# Altium integrated library ON Semi Digital Transistors (BRTs).IntLib: 470 symbols (part 7 of 11)
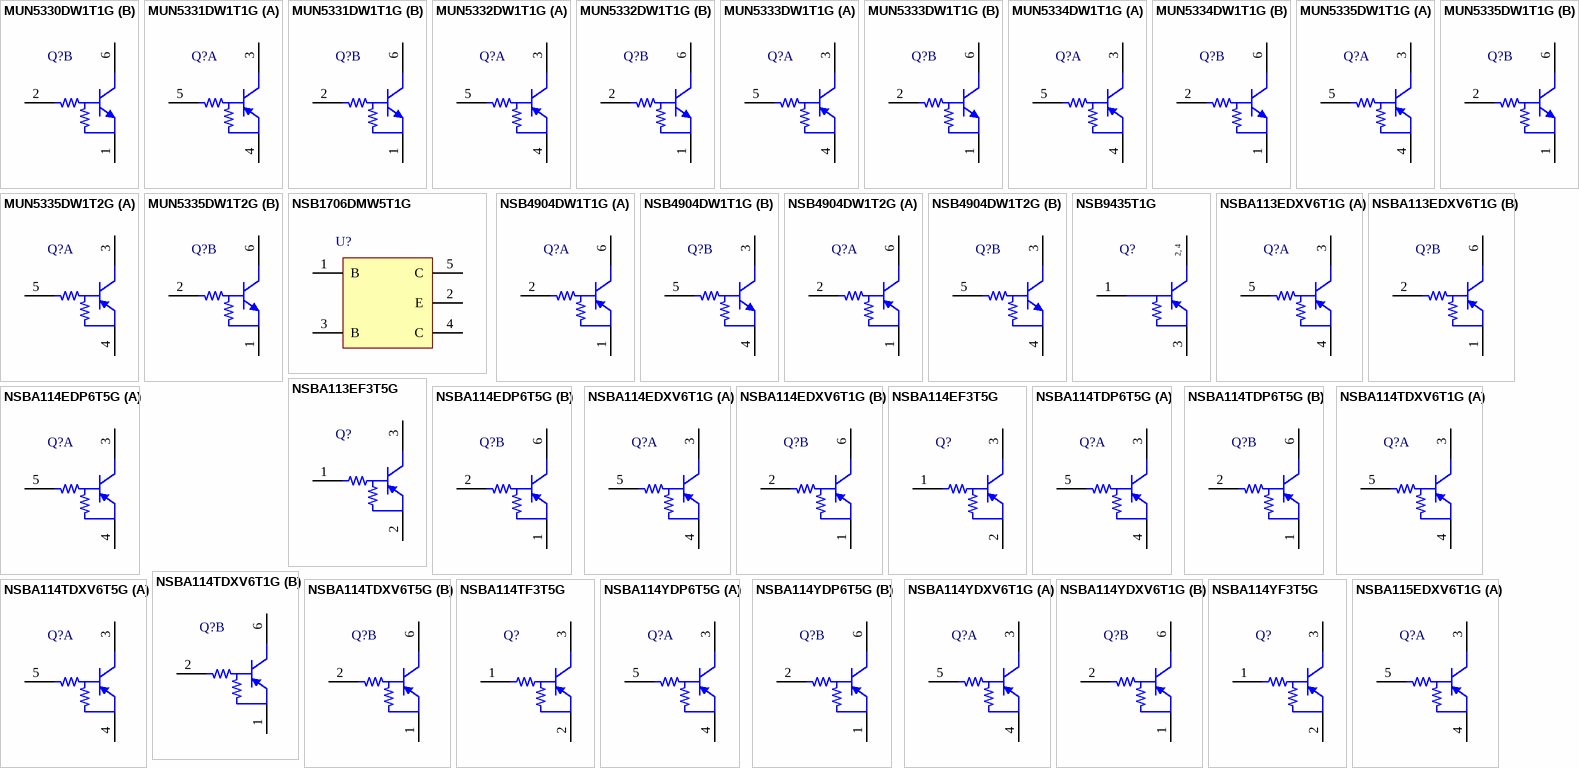
[diagram p22: symbols MUN5330DW1T1G to NSBA115EDXV6T1G]

## NSBA114YDXV6T1G
designator Q?
Dual PNP Bias Resistor Transistors, R1=10 kOhm, R2=47 kOhm, PNP Transistor, 6-Pin SOT-563, Pb-Free, Tape and Reel; Manufacturer: On Semiconductor; PartNumber: NSBA114YDXV6T1G; hFE Min: 80; IC Continuous (A): 0.1; R1/R2 Typ: 0.21; V(BR)CEO Min (V): 50; DatasheetVersion: Rev. 0; PackageVersion: Rev. F, 04/2005; PackageReference: SOT-563-6-463A-01; PackageDescription: 6-Pin Small Outline Transistor, Body 1.6 x 1.2 mm, Pitch 0.5 mm; Supplier 1: Digi-Key; Supplier Part Number 1: NSBA114YDXV6T1GOSTR-ND; Supplier 2: Digi-Key; Supplier Part Number 2: NSBA114YDXV6T1GOSCT-ND; Supplier 3: Newark; Supplier Part Number 3: 42K2299; Supplier 4: Mouser; Supplier Part Number 4: 863-NSBA114YDXV6T1G; Packing: Tape and Reel; Polarity: Dual PNP; RoHS: TRUE; Mounting Technology: Surface Mount; ComponentLink1Description: Manufacturer URL; ComponentLink1URL: http://www.onsemi.com/; ComponentLink2Description: Datasheet; ComponentLink2URL: http://www.onsemi.cn/pub_link/Collateral/DTA114YD-D.PDF; ComponentLink3Description: Package Specification; ComponentLink3URL: http://www.onsemi.cn/pub_link/Collateral/463A-01.PDF
footprint ONSC-SOT-563-6-463A-01_V (SOT23, 6-Leads, Body 1.6x1.2mm, Pitch 0.5mm)
part A pins: 3 C, 4 E, 5 B
part B pins: 1 E, 2 B, 6 C

## NSBA114YF3T5G
designator Q?
Digital Transistor (BRT), R1=10 kOhm, R2=47 kOhm, PNP Transistor, 3-Pin SOT-1123, Pb-Free, Tape and Reel; Manufacturer: On Semiconductor; PartNumber: NSBA114YF3T5G; hFE Min: 80; IC Continuous (A): 0.1; R1/R2 Typ: 0.21; V(BR)CEO Min (V): 50; DatasheetVersion: Rev. 2; PackageVersion: Rev. C, 11/2011; PackageReference: SOT-1123-3-524AA; PackageDescription: 3-Pin Small Outline Transistor, Body 0.8 x 0.6 mm, Pitch 0.375 mm; Supplier 1: Digi-Key; Supplier Part Number 1: NSBA114YF3T5G-ND; Supplier 2: Mouser; Supplier Part Number 2: 863-NSBA114YF3T5G; Packing: Tape and Reel; Polarity: PNP; RoHS: TRUE; Mounting Technology: Surface Mount; ComponentLink1Description: Manufacturer URL; ComponentLink1URL: http://www.onsemi.com/; ComponentLink2Description: Datasheet; ComponentLink2URL: http://www.onsemi.cn/pub_link/Collateral/DTA114Y-D.PDF; ComponentLink3Description: Package Specification; ComponentLink3URL: http://www.onsemi.cn/pub_link/Collateral/524AA.PDF
footprint ONSC-SOT-1123-3-524AA_V (SOT223, 3-Leads, Body 0.8x0.6mm, Pitch 0.38mm)
pins: 1 B, 2 E, 3 C

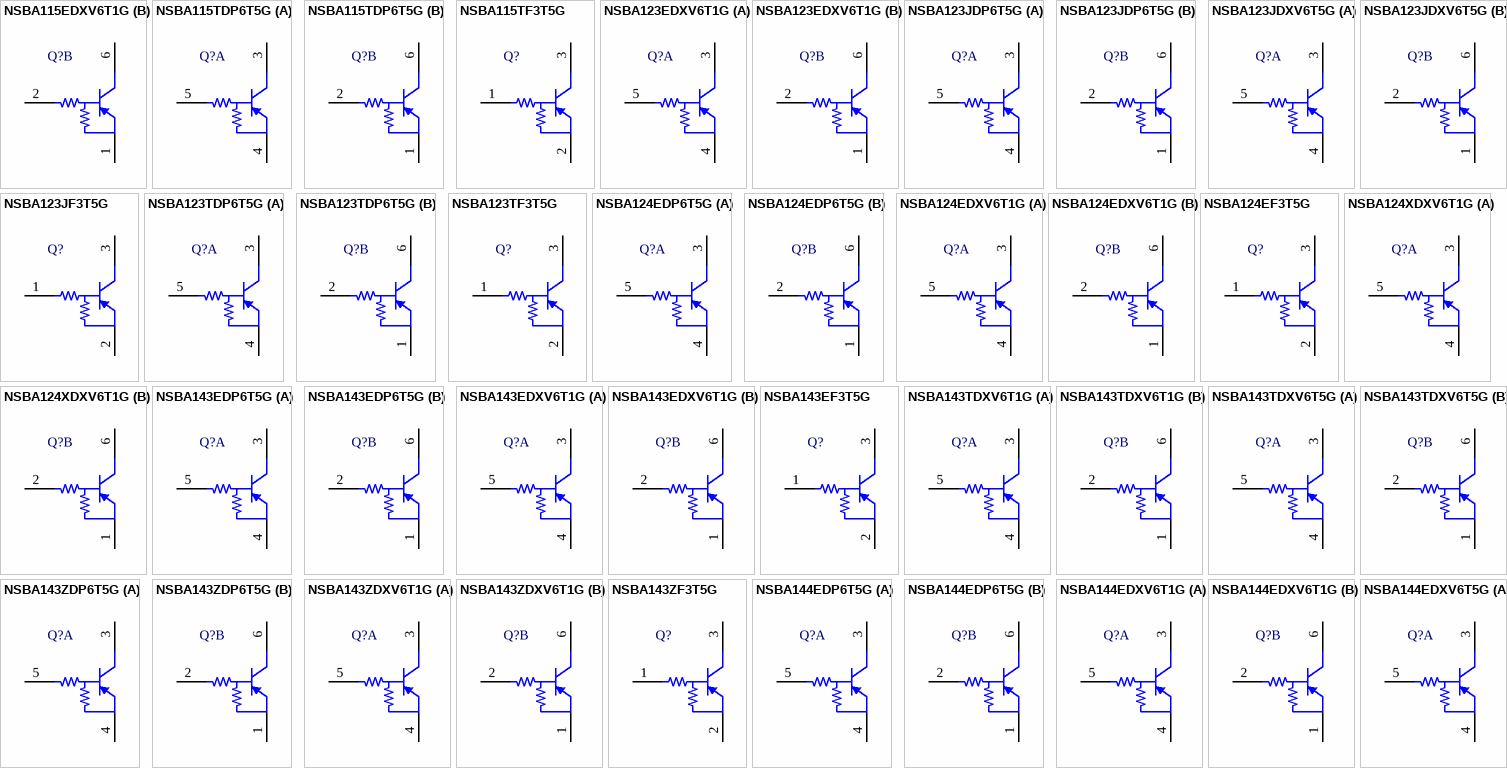
[diagram p8: symbols NSBA115EDXV6T1G to NSBA144EDXV6T5G]

## NSBA115EDXV6T1G
designator Q?
Dual PNP Bias Resistor Transistors, R1=100 kOhm, R2=100 kOhm, PNP Transistor, 6-Pin SOT-563, Pb-Free, Tape and Reel; Manufacturer: On Semiconductor; PartNumber: NSBA115EDXV6T1G; hFE Min: 80; IC Continuous (A): 0.1; R1/R2 Typ: 1; V(BR)CEO Min (V): 50; DatasheetVersion: Rev. 0; PackageVersion: Rev. F, 04/2005; PackageReference: SOT-563-6-463A-01; PackageDescription: 6-Pin Small Outline Transistor, Body 1.6 x 1.2 mm, Pitch 0.5 mm; Supplier 1: Digi-Key; Supplier Part Number 1: NSBA115EDXV6T1GOSTR-ND; Supplier 2: Digi-Key; Supplier Part Number 2: NSBA115EDXV6T1GOSCT-ND; Supplier 3: Mouser; Supplier Part Number 3: 863-NSBA115EDXV6T1G; Packing: Tape and Reel; Polarity: Dual PNP; RoHS: TRUE; Mounting Technology: Surface Mount; ComponentLink1Description: Manufacturer URL; ComponentLink1URL: http://www.onsemi.com/; ComponentLink2Description: Datasheet; ComponentLink2URL: http://www.onsemi.cn/pub_link/Collateral/DTA115ED-D.PDF; ComponentLink3Description: Package Specification; ComponentLink3URL: http://www.onsemi.cn/pub_link/Collateral/463A-01.PDF
footprint ONSC-SOT-563-6-463A-01_V (SOT23, 6-Leads, Body 1.6x1.2mm, Pitch 0.5mm)
part A pins: 3 C, 4 E, 5 B
part B pins: 1 E, 2 B, 6 C

## NSBA115TDP6T5G
designator Q?
Dual PNP Bias Resistor Transistors, R1=100 kOhm, R2=infinity kOhm, PNP Transistor, 6-Pin SOT-963, Pb-Free, Tape and Reel; Manufacturer: On Semiconductor; PartNumber: NSBA115TDP6T5G; hFE Min: 160; IC Continuous (A): 0.1; V(BR)CEO Min (V): 50; DatasheetVersion: Rev. 0; PackageVersion: Rev. E, 02/2010; PackageReference: SOT-963-6-527AD-01; PackageDescription: 6-Pin Small Outline Transistor, Body 1 x 0.8 mm, Pitch 0.35 mm; Supplier 1: Digi-Key; Supplier Part Number 1: NSBA115TDP6T5G-ND; Supplier 2: Mouser; Supplier Part Number 2: 863-NSBA115TDP6T5G; Packing: Tape and Reel; Polarity: Dual PNP; RoHS: TRUE; Mounting Technology: Surface Mount; ComponentLink1Description: Manufacturer URL; ComponentLink1URL: http://www.onsemi.com/; ComponentLink2Description: Datasheet; ComponentLink2URL: http://www.onsemi.cn/pub_link/Collateral/DTA115TD-D.PDF; ComponentLink3Description: Package Specification; ComponentLink3URL: http://www.onsemi.cn/pub_link/Collateral/527AD.PDF
footprint ONSC-SOT-963-6-527AD-01_V (SOT23, 6-Leads, Body 1x0.8mm, Pitch 0.35mm)
part A pins: 3 C, 4 E, 5 B
part B pins: 1 E, 2 B, 6 C

## NSBA115TF3T5G
designator Q?
Digital Transistor (BRT), R1=100 kOhm, R2=infinity kOhm, PNP Transistor, 3-Pin SOT-1123, Pb-Free, Tape and Reel; Manufacturer: On Semiconductor; PartNumber: NSBA115TF3T5G; hFE Min: 160; IC Continuous (A): 0.1; V(BR)CEO Min (V): 50; DatasheetVersion: Rev. 2; PackageVersion: Rev. C, 11/2011; PackageReference: SOT-1123-3-524AA; PackageDescription: 3-Pin Small Outline Transistor, Body 0.8 x 0.6 mm, Pitch 0.375 mm; Supplier 1: Digi-Key; Supplier Part Number 1: NSBA115TF3T5G-ND; Supplier 2: Mouser; Supplier Part Number 2: 863-NSBA115TF3T5G; Packing: Tape and Reel; Polarity: PNP; RoHS: TRUE; Mounting Technology: Surface Mount; ComponentLink1Description: Manufacturer URL; ComponentLink1URL: http://www.onsemi.com/; ComponentLink2Description: Datasheet; ComponentLink2URL: http://www.onsemi.cn/pub_link/Collateral/DTA115T-D.PDF; ComponentLink3Description: Package Specification; ComponentLink3URL: http://www.onsemi.cn/pub_link/Collateral/524AA.PDF
footprint ONSC-SOT-1123-3-524AA_V (SOT223, 3-Leads, Body 0.8x0.6mm, Pitch 0.38mm)
pins: 1 B, 2 E, 3 C

## NSBA123EDXV6T1G
designator Q?
Dual PNP Bias Resistor Transistors, R1=2.2 kOhm, R2=2.2 kOhm, PNP Transistor, 6-Pin SOT-563, Pb-Free, Tape and Reel; Manufacturer: On Semiconductor; PartNumber: NSBA123EDXV6T1G; hFE Min: 8; IC Continuous (A): 0.1; R1/R2 Typ: 1; V(BR)CEO Min (V): 50; DatasheetVersion: Rev. 0; PackageVersion: Rev. F, 04/2005; PackageReference: SOT-563-6-463A-01; PackageDescription: 6-Pin Small Outline Transistor, Body 1.6 x 1.2 mm, Pitch 0.5 mm; Supplier 1: Digi-Key; Supplier Part Number 1: NSBA123EDXV6T1GOS-ND; Supplier 2: Mouser; Supplier Part Number 2: 863-NSBA123EDXV6T1G; Packing: Tape and Reel; Polarity: Dual PNP; RoHS: TRUE; Mounting Technology: Surface Mount; ComponentLink1Description: Manufacturer URL; ComponentLink1URL: http://www.onsemi.com/; ComponentLink2Description: Datasheet; ComponentLink2URL: http://www.onsemi.cn/pub_link/Collateral/DTA123ED-D.PDF; ComponentLink3Description: Package Specification; ComponentLink3URL: http://www.onsemi.cn/pub_link/Collateral/463A-01.PDF
footprint ONSC-SOT-563-6-463A-01_V (SOT23, 6-Leads, Body 1.6x1.2mm, Pitch 0.5mm)
part A pins: 3 C, 4 E, 5 B
part B pins: 1 E, 2 B, 6 C

## NSBA123JDP6T5G
designator Q?
Dual PNP Bias Resistor Transistors, R1=2.2 kOhm, R2=47 kOhm, PNP Transistor, 6-Pin SOT-963, Pb-Free, Tape and Reel; Manufacturer: On Semiconductor; PartNumber: NSBA123JDP6T5G; hFE Min: 80; IC Continuous (A): 0.1; R1/R2 Typ: 0.047; V(BR)CEO Min (V): 50; DatasheetVersion: Rev. 0; PackageVersion: Rev. E, 02/2010; PackageReference: SOT-963-6-527AD-01; PackageDescription: 6-Pin Small Outline Transistor, Body 1 x 0.8 mm, Pitch 0.35 mm; Supplier 1: Digi-Key; Supplier Part Number 1: NSBA123JDP6T5G-ND; Supplier 2: Mouser; Supplier Part Number 2: 863-NSBA123JDP6T5G; Packing: Tape and Reel; Polarity: Dual PNP; RoHS: TRUE; Mounting Technology: Surface Mount; ComponentLink1Description: Manufacturer URL; ComponentLink1URL: http://www.onsemi.com/; ComponentLink2Description: Datasheet; ComponentLink2URL: http://www.onsemi.cn/pub_link/Collateral/DTA123JD-D.PDF; ComponentLink3Description: Package Specification; ComponentLink3URL: http://www.onsemi.cn/pub_link/Collateral/527AD.PDF
footprint ONSC-SOT-963-6-527AD-01_V (SOT23, 6-Leads, Body 1x0.8mm, Pitch 0.35mm)
part A pins: 3 C, 4 E, 5 B
part B pins: 1 E, 2 B, 6 C

## NSBA123JDXV6T5G
designator Q?
Dual PNP Bias Resistor Transistors, R1=2.2 kOhm, R2=47 kOhm, PNP Transistor, 6-Pin SOT-563, Pb-Free, Tape and Reel; Manufacturer: On Semiconductor; PartNumber: NSBA123JDXV6T5G; hFE Min: 80; IC Continuous (A): 0.1; R1/R2 Typ: 0.047; V(BR)CEO Min (V): 50; DatasheetVersion: Rev. 0; PackageVersion: Rev. F, 04/2005; PackageReference: SOT-563-6-463A-01; PackageDescription: 6-Pin Small Outline Transistor, Body 1.6 x 1.2 mm, Pitch 0.5 mm; Supplier 1: Digi-Key; Supplier Part Number 1: NSBA123JDXV6T5GOS-ND; Supplier 2: Newark; Supplier Part Number 2: 42K2306; Supplier 3: Mouser; Supplier Part Number 3: 863-NSBA123JDXV6T5G; Packing: Tape and Reel; Polarity: Dual PNP; RoHS: TRUE; Mounting Technology: Surface Mount; ComponentLink1Description: Manufacturer URL; ComponentLink1URL: http://www.onsemi.com/; ComponentLink2Description: Datasheet; ComponentLink2URL: http://www.onsemi.cn/pub_link/Collateral/DTA123JD-D.PDF; ComponentLink3Description: Package Specification; ComponentLink3URL: http://www.onsemi.cn/pub_link/Collateral/463A-01.PDF
footprint ONSC-SOT-563-6-463A-01_V (SOT23, 6-Leads, Body 1.6x1.2mm, Pitch 0.5mm)
part A pins: 3 C, 4 E, 5 B
part B pins: 1 E, 2 B, 6 C

## NSBA123JF3T5G
designator Q?
Digital Transistor (BRT), R1=2.2 kOhm, R2=47 kOhm, PNP Transistor, 3-Pin SOT-1123, Pb-Free, Tape and Reel; Manufacturer: On Semiconductor; PartNumber: NSBA123JF3T5G; hFE Min: 80; IC Continuous (A): 0.1; R1/R2 Typ: 0.047; V(BR)CEO Min (V): 50; DatasheetVersion: Rev. 2; PackageVersion: Rev. C, 11/2011; PackageReference: SOT-1123-3-524AA; PackageDescription: 3-Pin Small Outline Transistor, Body 0.8 x 0.6 mm, Pitch 0.375 mm; Supplier 1: Digi-Key; Supplier Part Number 1: NSBA123JF3T5G-ND; Supplier 2: Mouser; Supplier Part Number 2: 863-NSBA123JF3T5G; Packing: Tape and Reel; Polarity: PNP; RoHS: TRUE; Mounting Technology: Surface Mount; ComponentLink1Description: Manufacturer URL; ComponentLink1URL: http://www.onsemi.com/; ComponentLink2Description: Datasheet; ComponentLink2URL: http://www.onsemi.cn/pub_link/Collateral/DTA123J-D.PDF; ComponentLink3Description: Package Specification; ComponentLink3URL: http://www.onsemi.cn/pub_link/Collateral/524AA.PDF
footprint ONSC-SOT-1123-3-524AA_V (SOT223, 3-Leads, Body 0.8x0.6mm, Pitch 0.38mm)
pins: 1 B, 2 E, 3 C

## NSBA123TDP6T5G
designator Q?
Dual PNP Bias Resistor Transistors, R1=2.2 kOhm, R2=infinity kOhm, PNP Transistor, 6-Pin SOT-963, Pb-Free, Tape and Reel; Manufacturer: On Semiconductor; PartNumber: NSBA123TDP6T5G; hFE Min: 160; IC Continuous (A): 0.1; V(BR)CEO Min (V): 50; DatasheetVersion: Rev. 0; PackageVersion: Rev. E, 02/2010; PackageReference: SOT-963-6-527AD-01; PackageDescription: 6-Pin Small Outline Transistor, Body 1 x 0.8 mm, Pitch 0.35 mm; Supplier 1: Digi-Key; Supplier Part Number 1: NSBA123TDP6T5G-ND; Supplier 2: Mouser; Supplier Part Number 2: 863-NSBA123TDP6T5G; Packing: Tape and Reel; Polarity: Dual PNP; RoHS: TRUE; Mounting Technology: Surface Mount; ComponentLink1Description: Manufacturer URL; ComponentLink1URL: http://www.onsemi.com/; ComponentLink2Description: Datasheet; ComponentLink2URL: http://www.onsemi.cn/pub_link/Collateral/DTA123TD-D.PDF; ComponentLink3Description: Package Specification; ComponentLink3URL: http://www.onsemi.cn/pub_link/Collateral/527AD.PDF
footprint ONSC-SOT-963-6-527AD-01_V (SOT23, 6-Leads, Body 1x0.8mm, Pitch 0.35mm)
part A pins: 3 C, 4 E, 5 B
part B pins: 1 E, 2 B, 6 C

## NSBA123TF3T5G
designator Q?
Digital Transistor (BRT), R1=2.2 kOhm, R2=infinity kOhm, PNP Transistor, 3-Pin SOT-1123, Pb-Free, Tape and Reel; Manufacturer: On Semiconductor; PartNumber: NSBA123TF3T5G; hFE Min: 160; IC Continuous (A): 0.1; V(BR)CEO Min (V): 50; DatasheetVersion: Rev. 2; PackageVersion: Rev. C, 11/2011; PackageReference: SOT-1123-3-524AA; PackageDescription: 3-Pin Small Outline Transistor, Body 0.8 x 0.6 mm, Pitch 0.375 mm; Supplier 1: Digi-Key; Supplier Part Number 1: NSBA123TF3T5G-ND; Supplier 2: Mouser; Supplier Part Number 2: 863-NSBA123TF3T5G; Packing: Tape and Reel; Polarity: PNP; RoHS: TRUE; Mounting Technology: Surface Mount; ComponentLink1Description: Manufacturer URL; ComponentLink1URL: http://www.onsemi.com/; ComponentLink2Description: Datasheet; ComponentLink2URL: http://www.onsemi.cn/pub_link/Collateral/DTA123T-D.PDF; ComponentLink3Description: Package Specification; ComponentLink3URL: http://www.onsemi.cn/pub_link/Collateral/524AA.PDF
footprint ONSC-SOT-1123-3-524AA_V (SOT223, 3-Leads, Body 0.8x0.6mm, Pitch 0.38mm)
pins: 1 B, 2 E, 3 C

## NSBA124EDP6T5G
designator Q?
Dual PNP Bias Resistor Transistors, R1=22 kOhm, R2=22 kOhm, PNP Transistor, 6-Pin SOT-963, Pb-Free, Tape and Reel; Manufacturer: On Semiconductor; PartNumber: NSBA124EDP6T5G; hFE Min: 60; IC Continuous (A): 0.1; R1/R2 Typ: 1; V(BR)CEO Min (V): 50; DatasheetVersion: Rev. 0; PackageVersion: Rev. E, 02/2010; PackageReference: SOT-963-6-527AD-01; PackageDescription: 6-Pin Small Outline Transistor, Body 1 x 0.8 mm, Pitch 0.35 mm; Supplier 1: Digi-Key; Supplier Part Number 1: NSBA124EDP6T5G-ND; Supplier 2: Mouser; Supplier Part Number 2: 863-NSBA124EDP6T5G; Packing: Tape and Reel; Polarity: Dual PNP; RoHS: TRUE; Mounting Technology: Surface Mount; ComponentLink1Description: Manufacturer URL; ComponentLink1URL: http://www.onsemi.com/; ComponentLink2Description: Datasheet; ComponentLink2URL: http://www.onsemi.cn/pub_link/Collateral/DTA124ED-D.PDF; ComponentLink3Description: Package Specification; ComponentLink3URL: http://www.onsemi.cn/pub_link/Collateral/527AD.PDF
footprint ONSC-SOT-963-6-527AD-01_V (SOT23, 6-Leads, Body 1x0.8mm, Pitch 0.35mm)
part A pins: 3 C, 4 E, 5 B
part B pins: 1 E, 2 B, 6 C

## NSBA124EDXV6T1G
designator Q?
Dual PNP Bias Resistor Transistors, R1=22 kOhm, R2=22 kOhm, PNP Transistor, 6-Pin SOT-563, Pb-Free, Tape and Reel; Manufacturer: On Semiconductor; PartNumber: NSBA124EDXV6T1G; hFE Min: 60; IC Continuous (A): 0.1; R1/R2 Typ: 1; V(BR)CEO Min (V): 50; DatasheetVersion: Rev. 0; PackageVersion: Rev. F, 04/2005; PackageReference: SOT-563-6-463A-01; PackageDescription: 6-Pin Small Outline Transistor, Body 1.6 x 1.2 mm, Pitch 0.5 mm; Supplier 1: Digi-Key; Supplier Part Number 1: NSBA124EDXV6T1GOS-ND; Supplier 2: Mouser; Supplier Part Number 2: 863-NSBA124EDXV6T1G; Packing: Tape and Reel; Polarity: Dual PNP; RoHS: TRUE; Mounting Technology: Surface Mount; ComponentLink1Description: Manufacturer URL; ComponentLink1URL: http://www.onsemi.com/; ComponentLink2Description: Datasheet; ComponentLink2URL: http://www.onsemi.cn/pub_link/Collateral/DTA124ED-D.PDF; ComponentLink3Description: Package Specification; ComponentLink3URL: http://www.onsemi.cn/pub_link/Collateral/463A-01.PDF
footprint ONSC-SOT-563-6-463A-01_V (SOT23, 6-Leads, Body 1.6x1.2mm, Pitch 0.5mm)
part A pins: 3 C, 4 E, 5 B
part B pins: 1 E, 2 B, 6 C

## NSBA124EF3T5G
designator Q?
Digital Transistor (BRT), R1=22 kOhm, R2=22 kOhm, PNP Transistor, 3-Pin SOT-1123, Pb-Free, Tape and Reel; Manufacturer: On Semiconductor; PartNumber: NSBA124EF3T5G; hFE Min: 60; IC Continuous (A): 0.1; R1/R2 Typ: 1; V(BR)CEO Min (V): 50; DatasheetVersion: Rev. 4; PackageVersion: Rev. C, 11/2011; PackageReference: SOT-1123-3-524AA; PackageDescription: 3-Pin Small Outline Transistor, Body 0.8 x 0.6 mm, Pitch 0.375 mm; Supplier 1: Digi-Key; Supplier Part Number 1: NSBA124EF3T5G-ND; Supplier 2: Mouser; Supplier Part Number 2: 863-NSBA124EF3T5G; Packing: Tape and Reel; Polarity: PNP; RoHS: TRUE; Mounting Technology: Surface Mount; ComponentLink1Description: Manufacturer URL; ComponentLink1URL: http://www.onsemi.com/; ComponentLink2Description: Datasheet; ComponentLink2URL: http://www.onsemi.cn/pub_link/Collateral/DTA124E-D.PDF; ComponentLink3Description: Package Specification; ComponentLink3URL: http://www.onsemi.cn/pub_link/Collateral/524AA.PDF
footprint ONSC-SOT-1123-3-524AA_V (SOT223, 3-Leads, Body 0.8x0.6mm, Pitch 0.38mm)
pins: 1 B, 2 E, 3 C

## NSBA124XDXV6T1G
designator Q?
Dual PNP Bias Resistor Transistors, R1=22 kOhm, R2=47 kOhm, PNP Transistor, 6-Pin SOT-563, Pb-Free, Tape and Reel; Manufacturer: On Semiconductor; PartNumber: NSBA124XDXV6T1G; hFE Min: 80; IC Continuous (A): 0.1; R1/R2 Typ: 0.47; V(BR)CEO Min (V): 50; DatasheetVersion: Rev. 0; PackageVersion: Rev. F, 04/2005; PackageReference: SOT-563-6-463A-01; PackageDescription: 6-Pin Small Outline Transistor, Body 1.6 x 1.2 mm, Pitch 0.5 mm; Supplier 1: Mouser; Supplier Part Number 1: N/A; Packing: Tape and Reel; Polarity: Dual PNP; RoHS: TRUE; Mounting Technology: Surface Mount; ComponentLink1Description: Manufacturer URL; ComponentLink1URL: http://www.onsemi.com/; ComponentLink2Description: Datasheet; ComponentLink2URL: http://www.onsemi.cn/pub_link/Collateral/DTA124XD-D.PDF; ComponentLink3Description: Package Specification; ComponentLink3URL: http://www.onsemi.cn/pub_link/Collateral/463A-01.PDF
footprint ONSC-SOT-563-6-463A-01_V (SOT23, 6-Leads, Body 1.6x1.2mm, Pitch 0.5mm)
part A pins: 3 C, 4 E, 5 B
part B pins: 1 E, 2 B, 6 C

## NSBA143EDP6T5G
designator Q?
Dual PNP Bias Resistor Transistors, R1=4.7 kOhm, R2=4.7 kOhm, PNP Transistor, 6-Pin SOT-963, Pb-Free, Tape and Reel; Manufacturer: On Semiconductor; PartNumber: NSBA143EDP6T5G; hFE Min: 15; IC Continuous (A): 0.1; R1/R2 Typ: 1; V(BR)CEO Min (V): 50; DatasheetVersion: Rev. 0; PackageVersion: Rev. E, 02/2010; PackageReference: SOT-963-6-527AD-01; PackageDescription: 6-Pin Small Outline Transistor, Body 1 x 0.8 mm, Pitch 0.35 mm; Supplier 1: Digi-Key; Supplier Part Number 1: NSBA143EDP6T5G-ND; Supplier 2: Mouser; Supplier Part Number 2: 863-NSBA143EDP6T5G; Packing: Tape and Reel; Polarity: Dual PNP; RoHS: TRUE; Mounting Technology: Surface Mount; ComponentLink1Description: Manufacturer URL; ComponentLink1URL: http://www.onsemi.com/; ComponentLink2Description: Datasheet; ComponentLink2URL: http://www.onsemi.cn/pub_link/Collateral/DTA143ED-D.PDF; ComponentLink3Description: Package Specification; ComponentLink3URL: http://www.onsemi.cn/pub_link/Collateral/527AD.PDF
footprint ONSC-SOT-963-6-527AD-01_V (SOT23, 6-Leads, Body 1x0.8mm, Pitch 0.35mm)
part A pins: 3 C, 4 E, 5 B
part B pins: 1 E, 2 B, 6 C

## NSBA143EDXV6T1G
designator Q?
Dual PNP Bias Resistor Transistors, R1=4.7 kOhm, R2=4.7 kOhm, PNP Transistor, 6-Pin SOT-563, Pb-Free, Tape and Reel; Manufacturer: On Semiconductor; PartNumber: NSBA143EDXV6T1G; hFE Min: 15; IC Continuous (A): 0.1; R1/R2 Typ: 1; V(BR)CEO Min (V): 50; DatasheetVersion: Rev. 0; PackageVersion: Rev. F, 04/2005; PackageReference: SOT-563-6-463A-01; PackageDescription: 6-Pin Small Outline Transistor, Body 1.6 x 1.2 mm, Pitch 0.5 mm; Supplier 1: Digi-Key; Supplier Part Number 1: NSBA143EDXV6T1GOS-ND; Supplier 2: Mouser; Supplier Part Number 2: 863-NSBA143EDXV6T1G; Packing: Tape and Reel; Polarity: Dual PNP; RoHS: TRUE; Mounting Technology: Surface Mount; ComponentLink1Description: Manufacturer URL; ComponentLink1URL: http://www.onsemi.com/; ComponentLink2Description: Datasheet; ComponentLink2URL: http://www.onsemi.cn/pub_link/Collateral/DTA143ED-D.PDF; ComponentLink3Description: Package Specification; ComponentLink3URL: http://www.onsemi.cn/pub_link/Collateral/463A-01.PDF
footprint ONSC-SOT-563-6-463A-01_V (SOT23, 6-Leads, Body 1.6x1.2mm, Pitch 0.5mm)
part A pins: 3 C, 4 E, 5 B
part B pins: 1 E, 2 B, 6 C

## NSBA143EF3T5G
designator Q?
Digital Transistor (BRT), R1=4.7 kOhm, R2=4.7 kOhm, PNP Transistor, 3-Pin SOT-1123, Pb-Free, Tape and Reel; Manufacturer: On Semiconductor; PartNumber: NSBA143EF3T5G; hFE Min: 15; IC Continuous (A): 0.1; R1/R2 Typ: 1; V(BR)CEO Min (V): 50; DatasheetVersion: Rev. 2; PackageVersion: Rev. C, 11/2011; PackageReference: SOT-1123-3-524AA; PackageDescription: 3-Pin Small Outline Transistor, Body 0.8 x 0.6 mm, Pitch 0.375 mm; Supplier 1: Digi-Key; Supplier Part Number 1: NSBA143EF3T5G-ND; Supplier 2: Mouser; Supplier Part Number 2: 863-NSBA143EF3T5G; Packing: Tape and Reel; Polarity: PNP; RoHS: TRUE; Mounting Technology: Surface Mount; ComponentLink1Description: Manufacturer URL; ComponentLink1URL: http://www.onsemi.com/; ComponentLink2Description: Datasheet; ComponentLink2URL: http://www.onsemi.cn/pub_link/Collateral/DTA143E-D.PDF; ComponentLink3Description: Package Specification; ComponentLink3URL: http://www.onsemi.cn/pub_link/Collateral/524AA.PDF
footprint ONSC-SOT-1123-3-524AA_V (SOT223, 3-Leads, Body 0.8x0.6mm, Pitch 0.38mm)
pins: 1 B, 2 E, 3 C

## NSBA143TDXV6T1G
designator Q?
Dual PNP Bias Resistor Transistors, R1=4.7 kOhm, R2=infinity kOhm, PNP Transistor, 6-Pin SOT-563, Pb-Free, Tape and Reel; Manufacturer: On Semiconductor; PartNumber: NSBA143TDXV6T1G; hFE Min: 160; IC Continuous (A): 0.1; V(BR)CEO Min (V): 50; DatasheetVersion: Rev. 0; PackageVersion: Rev. F, 04/2005; PackageReference: SOT-563-6-463A-01; PackageDescription: 6-Pin Small Outline Transistor, Body 1.6 x 1.2 mm, Pitch 0.5 mm; Supplier 1: Digi-Key; Supplier Part Number 1: NSBA143TDXV6T1GOSCT-ND; Supplier 2: Mouser; Supplier Part Number 2: 863-NSBA143TDXV6T1G; Packing: Tape and Reel; Polarity: Dual PNP; RoHS: TRUE; Mounting Technology: Surface Mount; ComponentLink1Description: Manufacturer URL; ComponentLink1URL: http://www.onsemi.com/; ComponentLink2Description: Datasheet; ComponentLink2URL: http://www.onsemi.cn/pub_link/Collateral/DTA143TD-D.PDF; ComponentLink3Description: Package Specification; ComponentLink3URL: http://www.onsemi.cn/pub_link/Collateral/463A-01.PDF
footprint ONSC-SOT-563-6-463A-01_V (SOT23, 6-Leads, Body 1.6x1.2mm, Pitch 0.5mm)
part A pins: 3 C, 4 E, 5 B
part B pins: 1 E, 2 B, 6 C

## NSBA143TDXV6T5G
designator Q?
Dual PNP Bias Resistor Transistors, R1=4.7 kOhm, R2=infinity kOhm, PNP Transistor, 6-Pin SOT-563, Pb-Free, Tape and Reel; Manufacturer: On Semiconductor; PartNumber: NSBA143TDXV6T5G; hFE Min: 160; IC Continuous (A): 0.1; V(BR)CEO Min (V): 50; DatasheetVersion: Rev. 0; PackageVersion: Rev. F, 04/2005; PackageReference: SOT-563-6-463A-01; PackageDescription: 6-Pin Small Outline Transistor, Body 1.6 x 1.2 mm, Pitch 0.5 mm; Supplier 1: Mouser; Supplier Part Number 1: 863-NSBA143TDXV6T5G; Packing: Tape and Reel; Polarity: Dual PNP; RoHS: TRUE; Mounting Technology: Surface Mount; ComponentLink1Description: Manufacturer URL; ComponentLink1URL: http://www.onsemi.com/; ComponentLink2Description: Datasheet; ComponentLink2URL: http://www.onsemi.cn/pub_link/Collateral/DTA143TD-D.PDF; ComponentLink3Description: Package Specification; ComponentLink3URL: http://www.onsemi.cn/pub_link/Collateral/463A-01.PDF
footprint ONSC-SOT-563-6-463A-01_V (SOT23, 6-Leads, Body 1.6x1.2mm, Pitch 0.5mm)
part A pins: 3 C, 4 E, 5 B
part B pins: 1 E, 2 B, 6 C

## NSBA143ZDP6T5G
designator Q?
Dual PNP Bias Resistor Transistors, R1=4.7 kOhm, R2=47 kOhm, PNP Transistor, 6-Pin SOT-963, Pb-Free, Tape and Reel; Manufacturer: On Semiconductor; PartNumber: NSBA143ZDP6T5G; hFE Min: 80; IC Continuous (A): 0.1; V(BR)CEO Min (V): 50; DatasheetVersion: Rev. 1; PackageVersion: Rev. E, 02/2010; PackageReference: SOT-963-6-527AD-01; PackageDescription: 6-Pin Small Outline Transistor, Body 1 x 0.8 mm, Pitch 0.35 mm; Supplier 1: Digi-Key; Supplier Part Number 1: NSBA143ZDP6T5G-ND; Supplier 2: Mouser; Supplier Part Number 2: 863-NSBA143ZDP6T5G; Packing: Tape and Reel; Polarity: Dual PNP; R1/R2 Typ: 0.1; RoHS: TRUE; Mounting Technology: Surface Mount; ComponentLink1Description: Manufacturer URL; ComponentLink1URL: http://www.onsemi.com/; ComponentLink2Description: Datasheet; ComponentLink2URL: http://www.onsemi.cn/pub_link/Collateral/DTA143ZD-D.PDF; ComponentLink3Description: Package Specification; ComponentLink3URL: http://www.onsemi.cn/pub_link/Collateral/527AD.PDF
footprint ONSC-SOT-963-6-527AD-01_V (SOT23, 6-Leads, Body 1x0.8mm, Pitch 0.35mm)
part A pins: 3 C, 4 E, 5 B
part B pins: 1 E, 2 B, 6 C

## NSBA143ZDXV6T1G
designator Q?
Dual PNP Bias Resistor Transistors, R1=4.7 kOhm, R2=47 kOhm, PNP Transistor, 6-Pin SOT-563, Pb-Free, Tape and Reel; Manufacturer: On Semiconductor; PartNumber: NSBA143ZDXV6T1G; hFE Min: 80; IC Continuous (A): 0.1; V(BR)CEO Min (V): 50; DatasheetVersion: Rev. 1; PackageVersion: Rev. F, 04/2005; PackageReference: SOT-563-6-463A-01; PackageDescription: 6-Pin Small Outline Transistor, Body 1.6 x 1.2 mm, Pitch 0.5 mm; Supplier 1: Mouser; Supplier Part Number 1: N/A; Packing: Tape and Reel; Polarity: Dual PNP; R1/R2 Typ: 0.1; RoHS: TRUE; Mounting Technology: Surface Mount; ComponentLink1Description: Manufacturer URL; ComponentLink1URL: http://www.onsemi.com/; ComponentLink2Description: Datasheet; ComponentLink2URL: http://www.onsemi.cn/pub_link/Collateral/DTA143ZD-D.PDF; ComponentLink3Description: Package Specification; ComponentLink3URL: http://www.onsemi.cn/pub_link/Collateral/463A-01.PDF
footprint ONSC-SOT-563-6-463A-01_V (SOT23, 6-Leads, Body 1.6x1.2mm, Pitch 0.5mm)
part A pins: 3 C, 4 E, 5 B
part B pins: 1 E, 2 B, 6 C

## NSBA143ZF3T5G
designator Q?
Digital Transistor (BRT), R1=4.7 kOhm, R2=47 kOhm, PNP Transistor, 3-Pin SOT-1123, Pb-Free, Tape and Reel; Manufacturer: On Semiconductor; PartNumber: NSBA143ZF3T5G; hFE Min: 80; IC Continuous (A): 0.1; V(BR)CEO Min (V): 50; DatasheetVersion: Rev. 6; PackageVersion: Rev. C, 11/2011; PackageReference: SOT-1123-3-524AA; PackageDescription: 3-Pin Small Outline Transistor, Body 0.8 x 0.6 mm, Pitch 0.375 mm; Supplier 1: Digi-Key; Supplier Part Number 1: NSBA143ZF3T5G-ND; Supplier 2: Mouser; Supplier Part Number 2: 863-NSBA143ZF3T5G; Packing: Tape and Reel; Polarity: PNP; R1/R2 Typ: 0.1; RoHS: TRUE; Mounting Technology: Surface Mount; ComponentLink1Description: Manufacturer URL; ComponentLink1URL: http://www.onsemi.com/; ComponentLink2Description: Datasheet; ComponentLink2URL: http://www.onsemi.cn/pub_link/Collateral/DTA143Z-D.PDF; ComponentLink3Description: Package Specification; ComponentLink3URL: http://www.onsemi.cn/pub_link/Collateral/524AA.PDF
footprint ONSC-SOT-1123-3-524AA_V (SOT223, 3-Leads, Body 0.8x0.6mm, Pitch 0.38mm)
pins: 1 B, 2 E, 3 C

## NSBA144EDP6T5G
designator Q?
Dual PNP Bias Resistor Transistors, R1=47 kOhm, R2=47 kOhm, PNP Transistors, 6-Pin SOT-963, Pb-Free, Tape and Reel; Manufacturer: On Semiconductor; PartNumber: NSBA144EDP6T5G; hFE Min: 80; IC Continuous (A): 0.1; R1/R2 Typ: 1; V(BR)CEO Min (V): 50; DatasheetVersion: Rev. 0; PackageVersion: Rev. E, 02/2010; PackageReference: SOT-963-6-527AD-01; PackageDescription: 6-Pin Small Outline Transistor, Body 1 x 0.8 mm, Pitch 0.35 mm; Supplier 1: Digi-Key; Supplier Part Number 1: NSBA144EDP6T5G-ND; Supplier 2: Mouser; Supplier Part Number 2: 863-NSBA144EDP6T5G; Packing: Tape and Reel; Polarity: Dual PNP; RoHS: TRUE; Mounting Technology: Surface Mount; ComponentLink1Description: Manufacturer URL; ComponentLink1URL: http://www.onsemi.com/; ComponentLink2Description: Datasheet; ComponentLink2URL: http://www.onsemi.cn/pub_link/Collateral/DTA144ED-D.PDF; ComponentLink3Description: Package Specification; ComponentLink3URL: http://www.onsemi.cn/pub_link/Collateral/527AD.PDF
footprint ONSC-SOT-963-6-527AD-01_V (SOT23, 6-Leads, Body 1x0.8mm, Pitch 0.35mm)
part A pins: 3 C, 4 E, 5 B
part B pins: 1 E, 2 B, 6 C

## NSBA144EDXV6T1G
designator Q?
Dual PNP Bias Resistor Transistors, R1=47 kOhm, R2=47 kOhm, PNP Transistors, 6-Pin SOT-563, Pb-Free, Tape and Reel; Manufacturer: On Semiconductor; PartNumber: NSBA144EDXV6T1G; hFE Min: 80; IC Continuous (A): 0.1; R1/R2 Typ: 1; V(BR)CEO Min (V): 50; DatasheetVersion: Rev. 0; PackageVersion: Rev. F, 04/2005; PackageReference: SOT-563-6-463A-01; PackageDescription: 6-Pin Small Outline Transistor, Body 1.6 x 1.2 mm, Pitch 0.5 mm; Supplier 1: Mouser; Supplier Part Number 1: 863-NSBA144EDXV6T1G; Packing: Tape and Reel; Polarity: Dual PNP; RoHS: TRUE; Mounting Technology: Surface Mount; ComponentLink1Description: Manufacturer URL; ComponentLink1URL: http://www.onsemi.com/; ComponentLink2Description: Datasheet; ComponentLink2URL: http://www.onsemi.cn/pub_link/Collateral/DTA144ED-D.PDF; ComponentLink3Description: Package Specification; ComponentLink3URL: http://www.onsemi.cn/pub_link/Collateral/463A-01.PDF
footprint ONSC-SOT-563-6-463A-01_V (SOT23, 6-Leads, Body 1.6x1.2mm, Pitch 0.5mm)
part A pins: 3 C, 4 E, 5 B
part B pins: 1 E, 2 B, 6 C

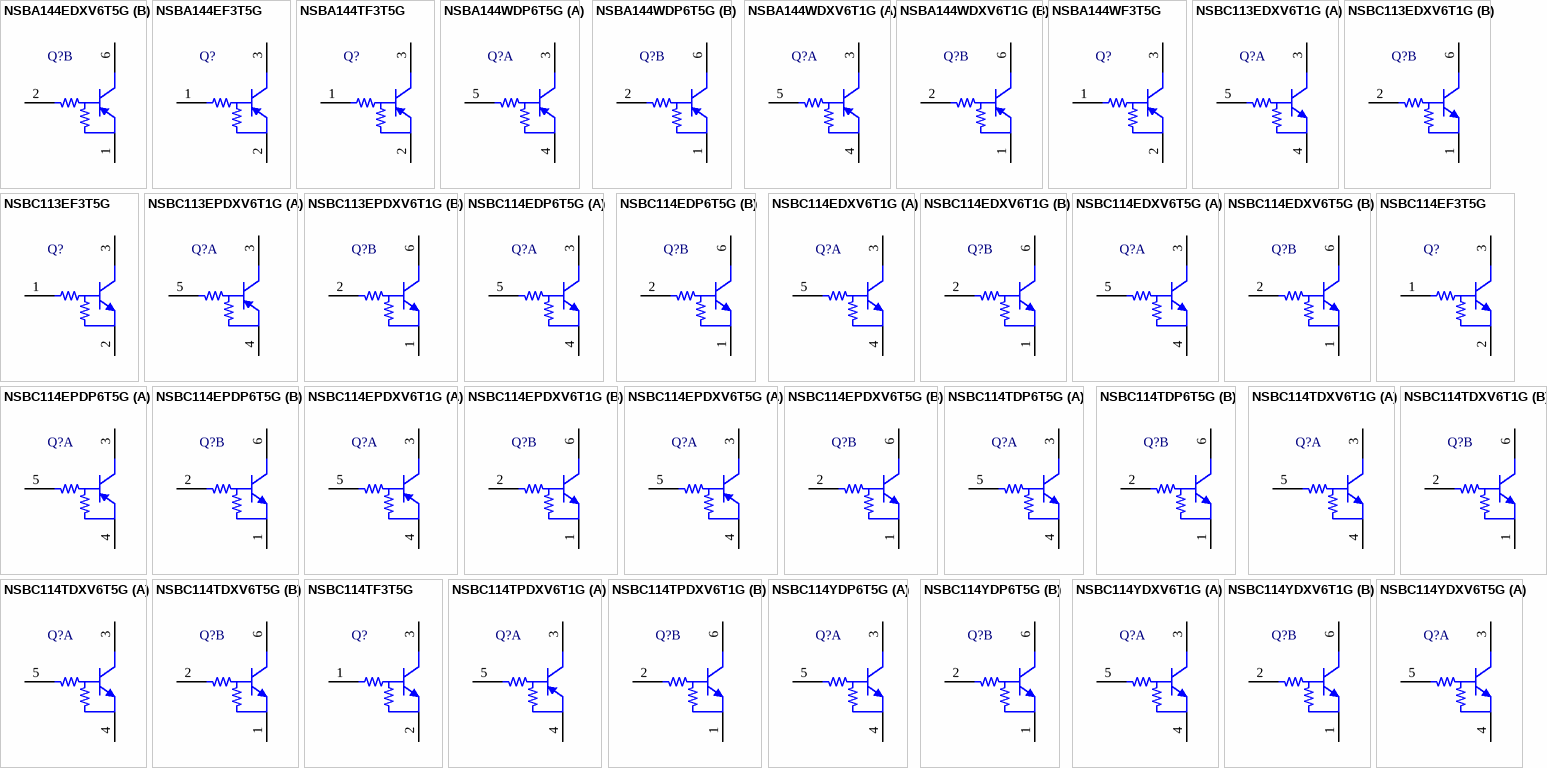
[diagram p9: symbols NSBA144EDXV6T5G to NSBC114YDXV6T5G]

## NSBA144EDXV6T5G
designator Q?
Dual PNP Bias Resistor Transistors, R1=47 kOhm, R2=47 kOhm, PNP Transistors, 6-Pin SOT-563, Pb-Free, Tape and Reel; Manufacturer: On Semiconductor; PartNumber: NSBA144EDXV6T5G; hFE Min: 80; IC Continuous (A): 0.1; R1/R2 Typ: 1; V(BR)CEO Min (V): 50; DatasheetVersion: Rev. 0; PackageVersion: Rev. F, 04/2005; PackageReference: SOT-563-6-463A-01; PackageDescription: 6-Pin Small Outline Transistor, Body 1.6 x 1.2 mm, Pitch 0.5 mm; Supplier 1: Mouser; Supplier Part Number 1: N/A; Packing: Tape and Reel; Polarity: Dual PNP; RoHS: TRUE; Mounting Technology: Surface Mount; ComponentLink1Description: Manufacturer URL; ComponentLink1URL: http://www.onsemi.com/; ComponentLink2Description: Datasheet; ComponentLink2URL: http://www.onsemi.cn/pub_link/Collateral/DTA144ED-D.PDF; ComponentLink3Description: Package Specification; ComponentLink3URL: http://www.onsemi.cn/pub_link/Collateral/463A-01.PDF
footprint ONSC-SOT-563-6-463A-01_V (SOT23, 6-Leads, Body 1.6x1.2mm, Pitch 0.5mm)
part A pins: 3 C, 4 E, 5 B
part B pins: 1 E, 2 B, 6 C

## NSBA144EF3T5G
designator Q?
Digital Transistor (BRT), R1=47 kOhm, R2=47 kOhm, PNP Transistor, 3-Pin SOT-1123, Pb-Free, Tape and Reel; Manufacturer: On Semiconductor; PartNumber: NSBA144EF3T5G; hFE Min: 80; IC Continuous (A): 0.1; R1/R2 Typ: 1; V(BR)CEO Min (V): 50; DatasheetVersion: Rev. 2; PackageVersion: Rev. C, 11/2011; PackageReference: SOT-1123-3-524AA; PackageDescription: 3-Pin Small Outline Transistor, Body 0.8 x 0.6 mm, Pitch 0.375 mm; Supplier 1: Digi-Key; Supplier Part Number 1: NSBA144EF3T5G-ND; Supplier 2: Mouser; Supplier Part Number 2: 863-NSBA144EF3T5G; Packing: Tape and Reel; Polarity: PNP; RoHS: TRUE; Mounting Technology: Surface Mount; ComponentLink1Description: Manufacturer URL; ComponentLink1URL: http://www.onsemi.com/; ComponentLink2Description: Datasheet; ComponentLink2URL: http://www.onsemi.cn/pub_link/Collateral/DTA144E-D.PDF; ComponentLink3Description: Package Specification; ComponentLink3URL: http://www.onsemi.cn/pub_link/Collateral/524AA.PDF
footprint ONSC-SOT-1123-3-524AA_V (SOT223, 3-Leads, Body 0.8x0.6mm, Pitch 0.38mm)
pins: 1 B, 2 E, 3 C

## NSBA144TF3T5G
designator Q?
Digital Transistor (BRT), R1=47 kOhm, R2=infinity kOhm, PNP Transistor, 3-Pin SOT-1123, Pb-Free, Tape and Reel; Manufacturer: On Semiconductor; PartNumber: NSBA144TF3T5G; hFE Min: 120; IC Continuous (A): 0.1; V(BR)CEO Min (V): 50; DatasheetVersion: Rev. 2; PackageVersion: Rev. C, 11/2011; PackageReference: SOT-1123-3-524AA; PackageDescription: 3-Pin Small Outline Transistor, Body 0.8 x 0.6 mm, Pitch 0.375 mm; Supplier 1: Newark; Supplier Part Number 1: 28X8044; Packing: Tape and Reel; Polarity: PNP; RoHS: TRUE; Mounting Technology: Surface Mount; ComponentLink1Description: Manufacturer URL; ComponentLink1URL: http://www.onsemi.com/; ComponentLink2Description: Datasheet; ComponentLink2URL: http://www.onsemi.com/pub_link/Collateral/DTA144T-D.PDF; ComponentLink3Description: Package Specification; ComponentLink3URL: http://www.onsemi.cn/pub_link/Collateral/524AA.PDF
footprint ONSC-SOT-1123-3-524AA_V (SOT223, 3-Leads, Body 0.8x0.6mm, Pitch 0.38mm)
pins: 1 B, 2 E, 3 C

## NSBA144WDP6T5G
designator Q?
Dual PNP Bias Resistor Transistors, R1=47 kOhm, R2=22 kOhm, PNP Transistor, 6-Pin SOT-963, Pb-Free, Tape and Reel; Manufacturer: On Semiconductor; PartNumber: NSBA144WDP6T5G; hFE Min: 80; IC Continuous (A): 0.1; R1/R2 Typ: 2.1; V(BR)CEO Min (V): 50; DatasheetVersion: Rev. 1; PackageVersion: Rev. E, 02/2010; PackageReference: SOT-963-6-527AD-01; PackageDescription: 6-Pin Small Outline Transistor, Body 1 x 0.8 mm, Pitch 0.35 mm; Supplier 1: Digi-Key; Supplier Part Number 1: NSBA144WDP6T5G-ND; Supplier 2: Mouser; Supplier Part Number 2: 863-NSBA144WDP6T5G; Packing: Tape and Reel; Polarity: Dual PNP; RoHS: TRUE; Mounting Technology: Surface Mount; ComponentLink1Description: Manufacturer URL; ComponentLink1URL: http://www.onsemi.com/; ComponentLink2Description: Datasheet; ComponentLink2URL: http://www.onsemi.cn/pub_link/Collateral/DTA144WD-D.PDF; ComponentLink3Description: Package Specification; ComponentLink3URL: http://www.onsemi.cn/pub_link/Collateral/527AD.PDF
footprint ONSC-SOT-963-6-527AD-01_V (SOT23, 6-Leads, Body 1x0.8mm, Pitch 0.35mm)
part A pins: 3 C, 4 E, 5 B
part B pins: 1 E, 2 B, 6 C

## NSBA144WDXV6T1G
designator Q?
Dual PNP Bias Resistor Transistors, R1=47 kOhm, R2=22 kOhm, PNP Transistor, 6-Pin SOT-563, Pb-Free, Tape and Reel; Manufacturer: On Semiconductor; PartNumber: NSBA144WDXV6T1G; Note: 0; hFE Min: 80; IC Continuous (A): 0.1; R1/R2 Typ: 2.1; V(BR)CEO Min (V): 50; DatasheetVersion: Rev. 1; PackageVersion: Rev. F, 04/2005; PackageReference: SOT-563-6-463A-01; PackageDescription: 6-Pin Small Outline Transistor, Body 1.6 x 1.2 mm, Pitch 0.5 mm; Packing: Tape and Reel; Polarity: Dual PNP; RoHS: TRUE; Mounting Technology: Surface Mount; ComponentLink1Description: Manufacturer URL; ComponentLink1URL: http://www.onsemi.com/; ComponentLink2Description: Datasheet; ComponentLink2URL: http://www.onsemi.cn/pub_link/Collateral/DTA144WD-D.PDF; ComponentLink3Description: Package Specification; ComponentLink3URL: http://www.onsemi.cn/pub_link/Collateral/463A-01.PDF
footprint ONSC-SOT-563-6-463A-01_V (SOT23, 6-Leads, Body 1.6x1.2mm, Pitch 0.5mm)
part A pins: 3 C, 4 E, 5 B
part B pins: 1 E, 2 B, 6 C

## NSBA144WF3T5G
designator Q?
Digital Transistor (BRT), R1=47 kOhm, R2=22 kOhm, PNP Transistor, 3-Pin SOT-1123, Pb-Free, Tape and Reel; Manufacturer: On Semiconductor; PartNumber: NSBA144WF3T5G; hFE Min: 80; IC Continuous (A): 0.1; R1/R2 Typ: 2.1; V(BR)CEO Min (V): 50; DatasheetVersion: Rev. 2; PackageVersion: Rev. C, 11/2011; PackageReference: SOT-1123-3-524AA; PackageDescription: 3-Pin Small Outline Transistor, Body 0.8 x 0.6 mm, Pitch 0.375 mm; Supplier 1: Digi-Key; Supplier Part Number 1: NSBA144WF3T5G-ND; Supplier 2: Mouser; Supplier Part Number 2: 863-NSBA144WF3T5G; Packing: Tape and Reel; Polarity: PNP; RoHS: TRUE; Mounting Technology: Surface Mount; ComponentLink1Description: Manufacturer URL; ComponentLink1URL: http://www.onsemi.com/; ComponentLink2Description: Datasheet; ComponentLink2URL: http://www.onsemi.cn/pub_link/Collateral/DTA144W-D.PDF; ComponentLink3Description: Package Specification; ComponentLink3URL: http://www.onsemi.cn/pub_link/Collateral/524AA.PDF
footprint ONSC-SOT-1123-3-524AA_V (SOT223, 3-Leads, Body 0.8x0.6mm, Pitch 0.38mm)
pins: 1 B, 2 E, 3 C

## NSBC113EDXV6T1G
designator Q?
Dual NPN Bias Resistor Transistors, R1=1 kOhm, R2=1 kOhm, NPN Transistor, 6-Pin SOT-563, Pb-Free, Tape and Reel; Manufacturer: On Semiconductor; PartNumber: NSBC113EDXV6T1G; hFE Min: 3; IC Continuous (A): 0.1; R1/R2 Typ: 1; V(BR)CEO Min (V): 50; DatasheetVersion: Rev. 0; PackageVersion: Rev. F, 04/2005; PackageReference: SOT-563-6-463A-01; PackageDescription: 6-Pin Small Outline Transistor, Body 1.6 x 1.2 mm, Pitch 0.5 mm; Supplier 1: Digi-Key; Supplier Part Number 1: NSBC113EDXV6T1GOSTR-ND; Supplier 2: Digi-Key; Supplier Part Number 2: NSBC113EDXV6T1GOSCT-ND; Supplier 3: Mouser; Supplier Part Number 3: N/A; Packing: Tape and Reel; Polarity: Dual NPN; RoHS: TRUE; Mounting Technology: Surface Mount; ComponentLink1Description: Manufacturer URL; ComponentLink1URL: http://www.onsemi.com/; ComponentLink2Description: Datasheet; ComponentLink2URL: http://www.onsemi.cn/pub_link/Collateral/DTC113ED-D.PDF; ComponentLink3Description: Package Specification; ComponentLink3URL: http://www.onsemi.cn/pub_link/Collateral/463A-01.PDF
footprint ONSC-SOT-563-6-463A-01_V (SOT23, 6-Leads, Body 1.6x1.2mm, Pitch 0.5mm)
part A pins: 3 C, 4 E, 5 B
part B pins: 1 E, 2 B, 6 C

## NSBC113EF3T5G
designator Q?
Digital Transistor (BRT), R1=1 kOhm, R2=1 kOhm, NPN Transistor, 3-Pin SOT-1123, Pb-Free, Tape and Reel; Manufacturer: On Semiconductor; PartNumber: NSBC113EF3T5G; hFE Min: 3; IC Continuous (A): 0.1; R1/R2 Typ: 1; V(BR)CEO Min (V): 50; DatasheetVersion: Rev. 1; PackageVersion: Rev. C, 11/2011; PackageReference: SOT-1123-3-524AA; PackageDescription: 3-Pin Small Outline Transistor, Body 0.8 x 0.6 mm, Pitch 0.375 mm; Supplier 1: Newark; Supplier Part Number 1: 28X8045; Packing: Tape and Reel; Polarity: NPN; RoHS: TRUE; Mounting Technology: Surface Mount; ComponentLink1Description: Manufacturer URL; ComponentLink1URL: http://www.onsemi.com/; ComponentLink2Description: Datasheet; ComponentLink2URL: http://www.onsemi.cn/pub_link/Collateral/DTC113E-D.PDF; ComponentLink3Description: Package Specification; ComponentLink3URL: http://www.onsemi.cn/pub_link/Collateral/524AA.PDF
footprint ONSC-SOT-1123-3-524AA_V (SOT223, 3-Leads, Body 0.8x0.6mm, Pitch 0.38mm)
pins: 1 B, 2 E, 3 C

## NSBC113EPDXV6T1G
designator Q?
Complementary NPN and PNP Transistors, R1=1 kOhm, R2=1 kOhm, 6-Pin SOT-563, Pb-Free, Tape and Reel; Manufacturer: On Semiconductor; PartNumber: NSBC113EPDXV6T1G; hFE Min: 3; IC Continuous (A): 0.1; R1/R2 Typ: 1; V(BR)CEO Min (V): 50; DatasheetVersion: Rev. 2; PackageVersion: Rev. F, 04/2005; PackageReference: SOT-563-6-463A-01; PackageDescription: 6-Pin Small Outline Transistor, Body 1.6 x 1.2 mm, Pitch 0.5 mm; Supplier 1: Mouser; Supplier Part Number 1: N/A; Packing: Tape and Reel; Polarity: Complementary; RoHS: TRUE; Mounting Technology: Surface Mount; ComponentLink1Description: Manufacturer URL; ComponentLink1URL: http://www.onsemi.com/; ComponentLink2Description: Datasheet; ComponentLink2URL: http://www.onsemi.cn/pub_link/Collateral/DTC113EP-D.PDF; ComponentLink3Description: Package Specification; ComponentLink3URL: http://www.onsemi.cn/pub_link/Collateral/463A-01.PDF
footprint ONSC-SOT-563-6-463A-01_V (SOT23, 6-Leads, Body 1.6x1.2mm, Pitch 0.5mm)
part A pins: 3 C, 4 E, 5 B
part B pins: 1 E, 2 B, 6 C

## NSBC114EDP6T5G
designator Q?
Dual NPN Bias Resistor Transistors, R1=10 kOhm, R2=10 kOhm, NPN Transistor, 6-Pin SOT-963, Pb-Free, Tape and Reel; Manufacturer: On Semiconductor; PartNumber: NSBC114EDP6T5G; hFE Min: 35; IC Continuous (A): 0.1; R1/R2 Typ: 1; V(BR)CEO Min (V): 50; DatasheetVersion: Rev. 1; PackageVersion: Rev. E, 02/2010; PackageReference: SOT-963-6-527AD-01; PackageDescription: 6-Pin Small Outline Transistor, Body 1 x 0.8 mm, Pitch 0.35 mm; Supplier 1: Digi-Key; Supplier Part Number 1: NSBC114EDP6T5G-ND; Supplier 2: Mouser; Supplier Part Number 2: 863-NSBC114EDP6T5G; Packing: Tape and Reel; Polarity: Dual NPN; RoHS: TRUE; Mounting Technology: Surface Mount; ComponentLink1Description: Manufacturer URL; ComponentLink1URL: http://www.onsemi.com/; ComponentLink2Description: Datasheet; ComponentLink2URL: http://www.onsemi.cn/pub_link/Collateral/DTC114ED-D.PDF; ComponentLink3Description: Package Specification; ComponentLink3URL: http://www.onsemi.cn/pub_link/Collateral/527AD.PDF
footprint ONSC-SOT-963-6-527AD-01_V (SOT23, 6-Leads, Body 1x0.8mm, Pitch 0.35mm)
part A pins: 3 C, 4 E, 5 B
part B pins: 1 E, 2 B, 6 C

## NSBC114EDXV6T1G
designator Q?
Dual NPN Bias Resistor Transistors, R1=10 kOhm, R2=10 kOhm, NPN Transistor, 6-Pin SOT-563, Pb-Free, Tape and Reel; Manufacturer: On Semiconductor; PartNumber: NSBC114EDXV6T1G; hFE Min: 35; IC Continuous (A): 0.1; R1/R2 Typ: 1; V(BR)CEO Min (V): 50; DatasheetVersion: Rev. 1; PackageVersion: Rev. F, 04/2005; PackageReference: SOT-563-6-463A-01; PackageDescription: 6-Pin Small Outline Transistor, Body 1.6 x 1.2 mm, Pitch 0.5 mm; Supplier 1: Digi-Key; Supplier Part Number 1: NSBC114EDXV6T1GOSTR-ND; Supplier 2: Digi-Key; Supplier Part Number 2: NSBC114EDXV6T1GOSCT-ND; Supplier 3: Digi-Key; Supplier Part Number 3: NSBC114EDXV6T1GOSDKR-ND; Supplier 4: Newark; Supplier Part Number 4: 42K2319; Supplier 5: Mouser; Supplier Part Number 5: 863-NSBC114EDXV6T1G; Packing: Tape and Reel; Polarity: Dual NPN; RoHS: TRUE; Mounting Technology: Surface Mount; ComponentLink1Description: Manufacturer URL; ComponentLink1URL: http://www.onsemi.com/; ComponentLink2Description: Datasheet; ComponentLink2URL: http://www.onsemi.cn/pub_link/Collateral/DTC114ED-D.PDF; ComponentLink3Description: Package Specification; ComponentLink3URL: http://www.onsemi.cn/pub_link/Collateral/463A-01.PDF
footprint ONSC-SOT-563-6-463A-01_V (SOT23, 6-Leads, Body 1.6x1.2mm, Pitch 0.5mm)
part A pins: 3 C, 4 E, 5 B
part B pins: 1 E, 2 B, 6 C

## NSBC114EDXV6T5G
designator Q?
Dual NPN Bias Resistor Transistors, R1=10 kOhm, R2=10 kOhm, NPN Transistor, 6-Pin SOT-563, Pb-Free, Tape and Reel; Manufacturer: On Semiconductor; PartNumber: NSBC114EDXV6T5G; hFE Min: 35; IC Continuous (A): 0.1; R1/R2 Typ: 1; V(BR)CEO Min (V): 50; DatasheetVersion: Rev. 1; PackageVersion: Rev. F, 04/2005; PackageReference: SOT-563-6-463A-01; PackageDescription: 6-Pin Small Outline Transistor, Body 1.6 x 1.2 mm, Pitch 0.5 mm; Supplier 1: Digi-Key; Supplier Part Number 1: NSBC114EDXV6T5GOSTR-ND; Supplier 2: Digi-Key; Supplier Part Number 2: NSBC114EDXV6T5GOSCT-ND; Supplier 3: Mouser; Supplier Part Number 3: 863-NSBC114EDXV6T5G; Packing: Tape and Reel; Polarity: Dual NPN; RoHS: TRUE; Mounting Technology: Surface Mount; ComponentLink1Description: Manufacturer URL; ComponentLink1URL: http://www.onsemi.com/; ComponentLink2Description: Datasheet; ComponentLink2URL: http://www.onsemi.cn/pub_link/Collateral/DTC114ED-D.PDF; ComponentLink3Description: Package Specification; ComponentLink3URL: http://www.onsemi.cn/pub_link/Collateral/463A-01.PDF
footprint ONSC-SOT-563-6-463A-01_V (SOT23, 6-Leads, Body 1.6x1.2mm, Pitch 0.5mm)
part A pins: 3 C, 4 E, 5 B
part B pins: 1 E, 2 B, 6 C

## NSBC114EF3T5G
designator Q?
Digital Transistor (BRT), R1=10 kOhm, R2=10 kOhm, NPN Transistor, 3-Pin SOT-1123, Pb-Free, Tape and Reel; Manufacturer: On Semiconductor; PartNumber: NSBC114EF3T5G; hFE Min: 35; IC Continuous (A): 0.1; R1/R2 Typ: 1; V(BR)CEO Min (V): 50; DatasheetVersion: Rev. 5; PackageVersion: Rev. C, 11/2011; PackageReference: SOT-1123-3-524AA; PackageDescription: 3-Pin Small Outline Transistor, Body 0.8 x 0.6 mm, Pitch 0.375 mm; Supplier 1: Digi-Key; Supplier Part Number 1: NSBC114EF3T5G-ND; Supplier 2: Newark; Supplier Part Number 2: 01P5098; Supplier 3: Mouser; Supplier Part Number 3: 863-NSBC114EF3T5G; Packing: Tape and Reel; Polarity: NPN; RoHS: TRUE; Mounting Technology: Surface Mount; ComponentLink1Description: Manufacturer URL; ComponentLink1URL: http://www.onsemi.com/; ComponentLink2Description: Datasheet; ComponentLink2URL: http://www.onsemi.cn/pub_link/Collateral/DTC114E-D.PDF; ComponentLink3Description: Package Specification; ComponentLink3URL: http://www.onsemi.cn/pub_link/Collateral/524AA.PDF
footprint ONSC-SOT-1123-3-524AA_V (SOT223, 3-Leads, Body 0.8x0.6mm, Pitch 0.38mm)
pins: 1 B, 2 E, 3 C

## NSBC114EPDP6T5G
designator Q?
Complementary NPN and PNP Transistors, R1=10 kOhm, R2=10 kOhm, 6-Pin SOT-963, Pb-Free, Tape and Reel; Manufacturer: On Semiconductor; PartNumber: NSBC114EPDP6T5G; hFE Min: 35; IC Continuous (A): 0.1; R1/R2 Typ: 1; V(BR)CEO Min (V): 50; DatasheetVersion: Rev. 1; PackageVersion: Rev. E, 02/2010; PackageReference: SOT-963-6-527AD-01; PackageDescription: 6-Pin Small Outline Transistor, Body 1 x 0.8 mm, Pitch 0.35 mm; Supplier 1: Digi-Key; Supplier Part Number 1: NSBC114EPDP6T5G-ND; Supplier 2: Newark; Supplier Part Number 2: 13P5580; Supplier 3: Mouser; Supplier Part Number 3: 863-NSBC114EPDP6T5G; Packing: Tape and Reel; Polarity: Complementary; RoHS: TRUE; Mounting Technology: Surface Mount; ComponentLink1Description: Manufacturer URL; ComponentLink1URL: http://www.onsemi.com/; ComponentLink2Description: Datasheet; ComponentLink2URL: http://www.onsemi.cn/pub_link/Collateral/DTC114EP-D.PDF; ComponentLink3Description: Package Specification; ComponentLink3URL: http://www.onsemi.cn/pub_link/Collateral/527AD.PDF
footprint ONSC-SOT-963-6-527AD-01_V (SOT23, 6-Leads, Body 1x0.8mm, Pitch 0.35mm)
part A pins: 3 C, 4 E, 5 B
part B pins: 1 E, 2 B, 6 C

## NSBC114EPDXV6T1G
designator Q?
Complementary NPN and PNP Transistors, R1=10 kOhm, R2=10 kOhm, 6-Pin SOT-563, Pb-Free, Tape and Reel; Manufacturer: On Semiconductor; PartNumber: NSBC114EPDXV6T1G; hFE Min: 35; IC Continuous (A): 0.1; R1/R2 Typ: 1; V(BR)CEO Min (V): 50; DatasheetVersion: Rev. 1; PackageVersion: Rev. F, 04/2005; PackageReference: SOT-563-6-463A-01; PackageDescription: 6-Pin Small Outline Transistor, Body 1.6 x 1.2 mm, Pitch 0.5 mm; Supplier 1: Digi-Key; Supplier Part Number 1: NSBC114EPDXV6T1GOSTR-ND; Supplier 2: Digi-Key; Supplier Part Number 2: NSBC114EPDXV6T1GOSCT-ND; Supplier 3: Digi-Key; Supplier Part Number 3: NSBC114EPDXV6T1GOSDKR-ND; Supplier 4: Newark; Supplier Part Number 4: 42K2321; Supplier 5: Mouser; Supplier Part Number 5: 863-NSBC114EPDXV6T1G; Packing: Tape and Reel; Polarity: Complementary; RoHS: TRUE; Mounting Technology: Surface Mount; ComponentLink1Description: Manufacturer URL; ComponentLink1URL: http://www.onsemi.com/; ComponentLink2Description: Datasheet; ComponentLink2URL: http://www.onsemi.cn/pub_link/Collateral/DTC114EP-D.PDF; ComponentLink3Description: Package Specification; ComponentLink3URL: http://www.onsemi.cn/pub_link/Collateral/463A-01.PDF
footprint ONSC-SOT-563-6-463A-01_V (SOT23, 6-Leads, Body 1.6x1.2mm, Pitch 0.5mm)
part A pins: 3 C, 4 E, 5 B
part B pins: 1 E, 2 B, 6 C

## NSBC114EPDXV6T5G
designator Q?
Complementary NPN and PNP Transistors, R1=10 kOhm, R2=10 kOhm, 6-Pin SOT-563, Pb-Free, Tape and Reel; Manufacturer: On Semiconductor; PartNumber: NSBC114EPDXV6T5G; hFE Min: 35; IC Continuous (A): 0.1; R1/R2 Typ: 1; V(BR)CEO Min (V): 50; DatasheetVersion: Rev. 1; PackageVersion: Rev. F, 04/2005; PackageReference: SOT-563-6-463A-01; PackageDescription: 6-Pin Small Outline Transistor, Body 1.6 x 1.2 mm, Pitch 0.5 mm; Supplier 1: Digi-Key; Supplier Part Number 1: NSBC114EPDXV6T5G-ND; Supplier 2: Mouser; Supplier Part Number 2: 863-NSBC114EPDXV6T5G; Packing: Tape and Reel; Polarity: Complementary; RoHS: TRUE; Mounting Technology: Surface Mount; ComponentLink1Description: Manufacturer URL; ComponentLink1URL: http://www.onsemi.com/; ComponentLink2Description: Datasheet; ComponentLink2URL: http://www.onsemi.cn/pub_link/Collateral/DTC114EP-D.PDF; ComponentLink3Description: Package Specification; ComponentLink3URL: http://www.onsemi.cn/pub_link/Collateral/463A-01.PDF
footprint ONSC-SOT-563-6-463A-01_V (SOT23, 6-Leads, Body 1.6x1.2mm, Pitch 0.5mm)
part A pins: 3 C, 4 E, 5 B
part B pins: 1 E, 2 B, 6 C

## NSBC114TDP6T5G
designator Q?
Dual NPN Bias Resistor Transistors, R1=10 kOhm, R2=infinity kOhm, NPN Transistor, 6-Pin SOT-963, Pb-Free, Tape and Reel; Manufacturer: On Semiconductor; PartNumber: NSBC114TDP6T5G; hFE Min: 160; IC Continuous (A): 0.1; V(BR)CEO Min (V): 50; DatasheetVersion: Rev. 0; PackageVersion: Rev. E, 02/2010; PackageReference: SOT-963-6-527AD-01; PackageDescription: 6-Pin Small Outline Transistor, Body 1 x 0.8 mm, Pitch 0.35 mm; Supplier 1: Digi-Key; Supplier Part Number 1: NSBC114TDP6T5G-ND; Supplier 2: Mouser; Supplier Part Number 2: 863-NSBC114TDP6T5G; Packing: Tape and Reel; Polarity: Dual NPN; RoHS: TRUE; Mounting Technology: Surface Mount; ComponentLink1Description: Manufacturer URL; ComponentLink1URL: http://www.onsemi.com/; ComponentLink2Description: Datasheet; ComponentLink2URL: http://www.onsemi.cn/pub_link/Collateral/DTC114TD-D.PDF; ComponentLink3Description: Package Specification; ComponentLink3URL: http://www.onsemi.cn/pub_link/Collateral/527AD.PDF
footprint ONSC-SOT-963-6-527AD-01_V (SOT23, 6-Leads, Body 1x0.8mm, Pitch 0.35mm)
part A pins: 3 C, 4 E, 5 B
part B pins: 1 E, 2 B, 6 C

## NSBC114TDXV6T1G
designator Q?
Dual NPN Bias Resistor Transistors, R1=10 kOhm, R2=infinity kOhm, NPN Transistor, 6-Pin SOT-563, Pb-Free, Tape and Reel; Manufacturer: On Semiconductor; PartNumber: NSBC114TDXV6T1G; hFE Min: 160; IC Continuous (A): 0.1; V(BR)CEO Min (V): 50; DatasheetVersion: Rev. 0; PackageVersion: Rev. F, 04/2005; PackageReference: SOT-563-6-463A-01; PackageDescription: 6-Pin Small Outline Transistor, Body 1.6 x 1.2 mm, Pitch 0.5 mm; Supplier 1: Digi-Key; Supplier Part Number 1: NSBC114TDXV6T1GOSTR-ND; Supplier 2: Digi-Key; Supplier Part Number 2: NSBC114TDXV6T1GOSCT-ND; Supplier 3: Digi-Key; Supplier Part Number 3: NSBC114TDXV6T1GOSDKR-ND; Supplier 4: Newark; Supplier Part Number 4: 42K2323; Supplier 5: Mouser; Supplier Part Number 5: 863-NSBC114TDXV6T1G; Packing: Tape and Reel; Polarity: Dual NPN; RoHS: TRUE; Mounting Technology: Surface Mount; ComponentLink1Description: Manufacturer URL; ComponentLink1URL: http://www.onsemi.com/; ComponentLink2Description: Datasheet; ComponentLink2URL: http://www.onsemi.cn/pub_link/Collateral/DTC114TD-D.PDF; ComponentLink3Description: Package Specification; ComponentLink3URL: http://www.onsemi.cn/pub_link/Collateral/463A-01.PDF
footprint ONSC-SOT-563-6-463A-01_V (SOT23, 6-Leads, Body 1.6x1.2mm, Pitch 0.5mm)
part A pins: 3 C, 4 E, 5 B
part B pins: 1 E, 2 B, 6 C